# Altium schematic symbol library VOLTAGE_REG(0.9-5.5V, BST, 5V, 1.8A, SOT-23-5).SchLib: 1 symbol
Pins are listed as number, name and electrical type; pins without a type are passive.

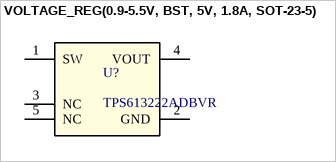
[diagram p0: symbol VOLTAGE_REG(0.9-5.5V, BST, 5V, 1.8A, SOT-23-5)]

## VOLTAGE_REG(0.9-5.5V, BST, 5V, 1.8A, SOT-23-5)
designator U?, comment TPS613222ADBVR
6-uA Quiescent Current, 1.8-A Switch Current Boost Converter 5-SOT-23 -40 to 125; Manufacturer_Name: Texas Instruments; Manufacturer_Part_Number: TPS613222ADBVR; Datasheet: https://www.ti.com/lit/ds/symlink/tps61322.pdf?HQS=dis-dk-null-digikeymode-dsf-pf-null-wwe&ts=1765909229782; Package: SOT-23-5; Digikey_Link: https://www.digikey.it/en/products/detail/texas-instruments/TPS613222ADBVR/8638376
footprint DBV0005A_L
pins: 1 SW (power), 2 GND (power), 3 NC, 4 VOUT (power), 5 NC